# Altium footprint library Devel_Airscout_PCB_LibV3.0.PcbLib: 67 footprints (part 4 of 5)
Each footprint in its own frame and in the unit in brackets; x right, y up, seen from the top. Pads: shape width x height; smd on the part's side, far side on the other; paste and mask are expansions set on the pad; w line width, h text height; cw(c..) or ccw(c..) is an arc to the next point about the centre after c.
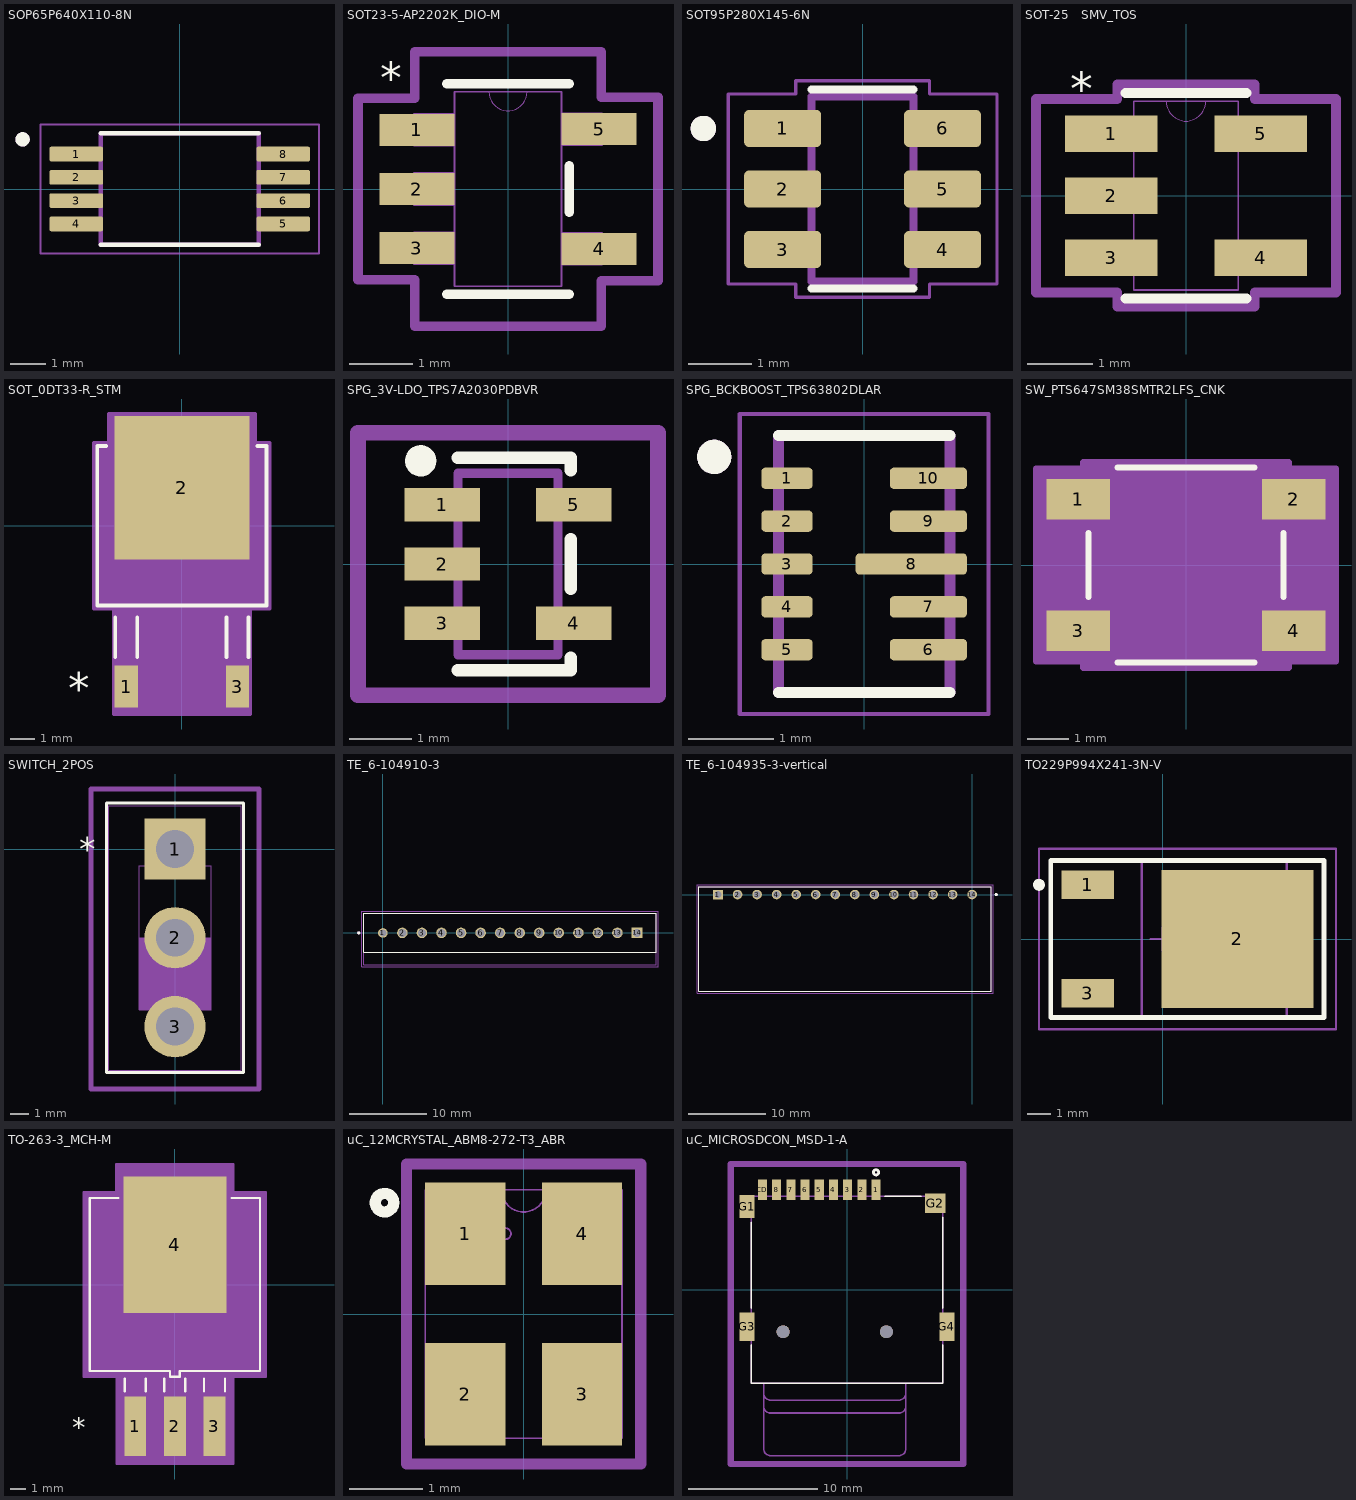
[diagram p3: the footprints below, top view; thin cyan lines are the x and y axes]

## SOP65P640X110-8N [mm]
pads (8):
  rrect25% 1.5x0.41 smd mask+0.065: 1(-2.885,0.975) 2(-2.885,0.325) 3(-2.885,-0.325) 4(-2.885,-0.975) 5(2.885,-0.975) 6(2.885,-0.325) 7(2.885,0.325) 8(2.885,0.975)
Top Overlay:
  circle w0.2: c-4.385,1.385 r0.1
  lines w0.127: -2.2,-1.55 2.2,-1.55 ; -2.2,1.55 2.2,1.55
Mechanical 13:
  circle w0.2: c-4.385,1.385 r0.1
  lines w0.127: -2.2,-1.55 -2.2,1.55 2.2,1.55 2.2,-1.55 -2.2,-1.55
Mechanical 15:
  lines w0.05: -3.885,-1.8 -3.885,1.8 3.885,1.8 3.885,-1.8 -3.885,-1.8
3D body "TSSOP8.STEP": height 1, standoff 0, extent -3.2,-1.5 3.2,1.5

## SOT23-5-AP2202K_DIO-M [mil]
pads (5):
  rect 47.15x20 smd paste+0 mask+0: 1(-57.08,37) 2(-57.08,0) 3(-57.08,-37) 4(57.08,-37.5) 5(57.08,37.5)
Top Overlay:
  lines w6: -38.5,-66 38.5,-66 ; -38.5,66 38.5,66 ; 38.5,-14.4 38.5,14.4
  text "*" at -80,60 h20
Mechanical 13:
  lines w0: -12,61 ccw(c0,61) 12,61
  lines w1: -59,-47 -33.5,-47 -33.5,-27 -59,-27 -59,-47 ; -59,-10 -33.5,-10 -33.5,10 -59,10 -59,-10 ; -59,27 -33.5,27 -33.5,47 -59,47 -59,27 ; -33.5,-61 -33.5,61 33.5,61 33.5,-61 -33.5,-61 ; 33.5,-47.5 59,-47.5 59,-27.5 33.5,-27.5 33.5,-47.5 ; 33.5,27.5 59,27.5 59,47.5 33.5,47.5 33.5,27.5
  text "*" at -80,60 h20
Mechanical 15:
  lines w6: -94,-57 -94,57 -58.5,57 -58.5,86 58.5,86 58.5,57.5 94,57.5 94,-57.5 58.5,-57.5 58.5,-86 -58.5,-86 -58.5,-57 -94,-57
3D body "SOT23-5-AP2202K_DIO.step": height 57.09, standoff 0, extent -59.02,-60.98 59.02,60.98

## SOT95P280X145-6N [mm]
pads (6):
  rrect25% 1.21x0.58 smd: 1(-1.255,0.95) 2(-1.255,0) 3(-1.255,-0.95) 4(1.255,-0.95) 5(1.255,0) 6(1.255,0.95)
Top Overlay:
  circle w0.2: c-2.5,0.95 r0.1
  lines w0.127: -0.8,-1.56 0.8,-1.56 ; -0.8,1.56 0.8,1.56
Mechanical 13:
  circle w0.2: c-2.5,0.95 r0.1
  lines w0.127: -0.8,-1.45 -0.8,1.45 0.8,1.45 0.8,-1.45 -0.8,-1.45
Mechanical 15:
  lines w0.05: -2.11,-1.49 -2.11,1.49 -1.05,1.49 -1.05,1.7 1.05,1.7 1.05,1.49 2.11,1.49 2.11,-1.49 1.05,-1.49 1.05,-1.7 -1.05,-1.7 -1.05,-1.49 -2.11,-1.49
3D body "step_temp.STEP": height 1.45, standoff 0, extent -1.4,-1.45 1.4,1.45

## SOT-25   SMV_TOS [mil]
pads (5):
  rect 56x22 smd paste+0 mask+0: 1(-45.06,37.4) 2(-45.06,0) 3(-45.06,-37.4) 4(45.06,-37.4) 5(45.06,37.4)
Top Overlay:
  lines w6: -36.5,-62 36.5,-62 ; -36.5,62 36.5,62
  text "*" at -70,55 h20
Mechanical 13:
  lines w0: -12,57 ccw(c0,57) 12,57
  lines w1: 31.5,-10 31.5,10 ; -59.06,-47.4 -31.5,-47.4 -31.5,-27.4 -59.06,-27.4 -59.06,-47.4 ; -59.06,-10 -31.5,-10 -31.5,10 -59.06,10 -59.06,-10 ; -59.06,27.4 -31.5,27.4 -31.5,47.4 -59.06,47.4 -59.06,27.4 ; -31.5,-57 -31.5,57 31.5,57 31.5,-57 -31.5,-57 ; 31.5,-47.4 59.06,-47.4 59.06,-27.4 31.5,-27.4 31.5,-47.4 ; 31.5,27.4 59.06,27.4 59.06,47.4 31.5,47.4 31.5,27.4
  text "*" at -70,55 h20
Mechanical 15:
  lines w6: -90.55,-58.4 -41.5,-58.4 -41.5,-67 41.5,-67 41.5,-58.4 90.55,-58.4 90.55,58.4 41.5,58.4 41.5,67 -41.5,67 -41.5,58.4 -90.55,58.4 -90.55,-58.4
3D body "SMV_z90.stp": height 45.28, standoff 0, extent -55.12,-57.09 55.12,57.09

## SOT_0DT33-R_STM [mil]
pads (3):
  rect 37x67 smd paste+0 mask+0: 1(-88.58,-256.5) 3(88.58,-256.5)
  rect 215x229 smd paste+0 mask+0: 2(0,60.5)
Top Overlay:
  lines w6: -120.6,127 -135,127 -135,-127 135,-127 135,127 120.6,127 ; -106.08,-209 -106.08,-146 ; -71.08,-209 -71.08,-146 ; 71.08,-209 71.08,-146 ; 106.08,-209 106.08,-146
  text "*" at -181.1,-283.46 h50
Mechanical 13:
  lines w1: -130,-122 130,-122 130,122 -130,122 -130,-122 ; -106.08,-276 -106.08,-122 -71.08,-122 -71.08,-276 -106.08,-276 ; 71.08,-276 71.08,-122 106.08,-122 106.08,-276 71.08,-276
  text "*" at -181.1,-283.46 h50
Mechanical 15:
  region: -140,-132 -140,132 -116.5,132 -116.5,178 116.5,178 116.5,132 140,132 140,-132 108.58,-132 108.58,-300 -108.58,-300 -108.58,-132
  lines w6: -140,-132 -140,132 -116.5,132 -116.5,178 116.5,178 116.5,132 140,132 140,-132 108.58,-132 108.58,-300 -108.58,-300 -108.58,-132 -140,-132
3D body "SOT_0DT33-R_STM.step": height 94.09, standoff -2.01, extent -130,-275.98 130,154.02

## SPG_3V-LDO_TPS7A2030PDBVR [mm] "Fooprint for SOT23-5; TPS7A2030PDBVR"
pads (5):
  rect 1.205x0.532 smd paste+0 mask+0: 1(-1.05,0.95) 2(-1.05,0) 3(-1.05,-0.95) 4(1.05,-0.95) 5(1.05,0.95)
Top Overlay:
  circle w0.25: c-1.397,1.651 r0.125
  lines w0.2: -0.8,-1.7 1,-1.7 1,-1.5 ; -0.8,1.7 1,1.7 1,1.5 ; 1,-0.4 1,0.4
Mechanical 13:
  lines w0.15: -0.8,-1.45 -0.8,1.45 0.8,1.45 0.8,-1.45 -0.8,-1.45
Mechanical 15:
  lines w0.254: -2.4,-2.1 -2.4,2.1 2.4,2.1 2.4,-2.1 -2.4,-2.1
  text "TPS7A2030PDBVR" at -2.1,2.4 h0.3
3D body "TPS560200DBVR.STEP": height 1.45, standoff 0, extent -1.4,-1.45 1.4,1.45

## SPG_BCKBOOST_TPS63802DLAR [mm] "Footprint of TPS63802DLAR"
height 1
pads (10):
  rrect40% 0.6x0.25 smd mask+0: 1(-0.9,1) 2(-0.9,0.5) 3(-0.9,0) 4(-0.9,-0.5) 5(-0.9,-1)
  rrect40% 0.9x0.25 smd mask+0: 6(0.75,-1) 7(0.75,-0.5) 9(0.75,0.5) 10(0.75,1)
  rrect40% 1.3x0.25 smd paste-2 mask+0: 8(0.55,0)
Top Overlay:
  circle w0.2: c-1.75,1.25 r0.1
  lines w0.127: -1,-1.5 1,-1.5 ; -1,1.5 1,1.5
Top Paste:
  drawing of 2 lines, arcs and shapes, not listed
Top Solder:
  drawing of 10 lines, arcs and shapes, not listed
Mechanical 13:
  circle w0.2: c-1.75,1.25 r0.1
  lines w0.127: -1,-1.5 1,-1.5 1,1.5 -1,1.5 -1,-1.5
Mechanical 15:
  lines w0.05: -1.45,-1.75 1.45,-1.75 1.45,1.75 -1.45,1.75 -1.45,-1.75
3D body "step_temp.STEP": height 1, standoff 0, extent -1,-1.5 1,1.5

## SW_PTS647SM38SMTR2LFS_CNK [mm]
pads (4):
  rect 1.549x0.991 smd paste+0 mask+0: 1(-2.625,1.6) 2(2.625,1.6) 3(-2.625,-1.6) 4(2.625,-1.6)
Top Overlay:
  lines w0.152: -2.375,-0.772 -2.375,0.772 ; -1.67,-2.375 1.67,-2.375 ; -1.67,2.375 1.67,2.375 ; 2.375,-0.772 2.375,0.772
Mechanical 13:
  lines w0: -0.305,2.248 ccw(c0,2.248) 0.305,2.248
  lines w0.025: -2.248,-2.248 2.248,-2.248 2.248,2.248 -2.248,2.248 -2.248,-2.248
Mechanical 15:
  region: -2.502,-2.349 -3.654,-2.349 -3.654,2.349 -2.502,2.349 -2.502,2.502 2.502,2.502 2.502,2.349 3.654,2.349 3.654,-2.349 2.502,-2.349 2.502,-2.502 -2.502,-2.502
  lines w0.152: -3.654,-2.349 -3.654,2.349 -2.502,2.349 -2.502,2.502 2.502,2.502 2.502,2.349 3.654,2.349 3.654,-2.349 2.502,-2.349 2.502,-2.502 -2.502,-2.502 -2.502,-2.349 -3.654,-2.349
3D body "SW_PTS647SM38SMTR2LFS_CNK.step": height 3.81, standoff 0, extent -3.05,-2.248 3.05,2.248

## SWITCH_2POS [mm] "ON-ON"
pads (3):
  rect 3.25x3.25 / inner round 1.524 / far side rect 2.108x2.108 hole 2 paste-2539.97 mask+0: 1(0,0)
  round 3.25 / inner round 1.524 / far side round 2.108 hole 2 paste-2539.97 mask+0: 2(0,-4.699) 3(0,-9.398)
Top Overlay:
  lines w0.152: -3.632,-11.824 -3.632,2.426 3.632,2.426 3.632,-11.824 -3.632,-11.824
  text "*" at -5.08,-0.635 h1.27
Mechanical 13:
  region: 1.905,-8.509 -1.905,-8.509 -1.905,-4.699 1.905,-4.699
  lines w0.025: -3.505,-11.697 -3.505,2.299 3.505,2.299 3.505,-11.697 -3.505,-11.697 ; -1.905,-8.509 1.905,-8.509 1.905,-0.889 -1.905,-0.889 -1.905,-8.509
  text "*" at -5.08,-0.635 h1.27
Mechanical 15:
  lines w0.254: -4.445,-12.7 -4.445,3.175 4.445,3.175 4.445,-12.7 -4.445,-12.7
3D body "CS12ANW03.stp": height 11.51, standoff -6.4, extent -3.632,-11.697 3.683,2.299

## TE_6-104910-3 [mm]
pads (14):
  round 1.24 hole 0.89: 1(0,0)
  round 1.37 hole 1.02: 2(2.54,0) 3(5.08,0) 4(7.62,0) 5(10.16,0) 6(12.7,0) 7(15.24,0) 8(17.78,0) 9(20.32,0) 10(22.86,0) 11(25.4,0) 12(27.94,0) 13(30.48,0)
  rect 1.37x1.37 hole 1.02: 14(33.02,0)
Top Overlay:
  circle w0.2: c-3.125,0 r0.1
  lines w0.127: -2.475,-2.54 -2.475,2.54 35.495,2.54 35.495,-2.54 -2.475,-2.54
Mechanical 13:
  circle w0.2: c-3.125,0 r0.1
  lines w0.127: -2.475,-2.54 -2.475,2.54 35.495,2.54 35.495,-2.54 ; -2.475,-2.54 35.495,-2.54 ; -2.475,-2.54 -2.475,-4.12 35.495,-4.12 35.495,-2.54
Mechanical 15:
  lines w0.05: -2.725,-4.37 -2.725,2.79 35.745,2.79 35.745,-4.37 -2.725,-4.37
3D body "705430013.stp": height 11.43, standoff -3.68, extent -2.54,-4.064 35.56,2.54

## TE_6-104935-3-vertical [mm]
pads (14):
  rect 1.24x1.24 hole 0.89: 1(-33.02,0)
  round 1.24 hole 0.89: 2(-30.48,0) 3(-27.94,0) 4(-25.4,0) 5(-22.86,0) 6(-20.32,0) 7(-17.78,0) 8(-15.24,0) 9(-12.7,0) 10(-10.16,0) 11(-7.62,0) 12(-5.08,0) 13(-2.54,0) 14(0,0)
Top Overlay:
  circle w0.2: c3.125,0 r0.1
  lines w0.127: -35.495,-12.57 2.475,-12.57 2.475,1.02 -35.495,1.02 -35.495,-12.57
Mechanical 13:
  circle w0.2: c3.125,0 r0.1
  lines w0.127: -35.495,-12.57 2.475,-12.57 ; -35.495,-12.57 2.475,-12.57 ; -35.495,-12.57 -35.495,1.02 2.475,1.02 2.475,-12.57
Mechanical 15:
  lines w0.05: -35.745,-12.82 2.725,-12.82 2.725,1.27 -35.745,1.27 -35.745,-12.82
3D body "705530013--3DModel-STEP-510211.STEP": height 6.98, standoff -3.3, extent -35.56,-12.763 2.54,0.826

## TO229P994X241-3N-V [mm] "TO,2.29mm pitch;2 pin,9.94mm L X 6.095mm W X 2.41mm H body"
height 2.41
pads (3):
  rect 2.2x1.2 smd paste+0 mask+0: 1(-3.15,2.28) 3(-3.15,-2.28)
  rect 6.4x5.8 smd paste+0 mask+0: 2(3.15,0)
Top Overlay:
  circle w0.25: c-5.2,2.28 r0.125
  lines w0.2: -4.7,-3.3 -4.7,3.3 6.8,3.3 6.8,-3.3 -4.7,-3.3
Mechanical 3:
  text ".DESIGNATOR" at 0,0 h1.2
Mechanical 13:
  lines w0.1: -0.875,-3.282 -0.875,3.282 5.22,3.282 5.22,-3.282 -0.875,-3.282
Mechanical 15:
  lines w0.1: -0.5,0 0.5,0 ; 0,-0.5 0,0.5 ; -5.2,-3.8 7.3,-3.8 7.3,3.8 -5.2,3.8 -5.2,-3.8
3D body "PG-TO252-3-311.stp": height 2.36, standoff 0, extent -3.94,-3.25 6.04,3.25

## TO-263-3_MCH-M [mil]
pads (4):
  rect 55x150 smd paste+0 mask+0: 1(-100,-358.5) 2(0,-358.5) 3(100,-358.5)
  rect 260x345 smd paste+0 mask+0: 4(0,101)
Top Overlay:
  lines w6: -143.1,218.5 -215,218.5 -215,-218.5 -12.5,-218.5 -12.5,-233.5 12.5,-233.5 12.5,-218.5 215,-218.5 215,218.5 143.1,218.5 ; -126.5,-269.5 -126.5,-237.5 ; -73.5,-269.5 -73.5,-237.5 ; -26.5,-269.5 -26.5,-237.5 ; 26.5,-269.5 26.5,-237.5 ; 73.5,-269.5 73.5,-237.5 ; 126.5,-269.5 126.5,-237.5
  text "*" at -259.84,-385.83 h50
Mechanical 13:
  lines w1: -210,-213.5 210,-213.5 210,213.5 -210,213.5 -210,-213.5 ; -126.5,-411.5 -126.5,-213.5 -73.5,-213.5 -73.5,-411.5 -126.5,-411.5 ; -26.5,-411.5 -26.5,-213.5 26.5,-213.5 26.5,-411.5 -26.5,-411.5 ; -7.5,-228.5 -7.5,-213.5 7.5,-213.5 7.5,-228.5 -7.5,-228.5 ; 73.5,-411.5 73.5,-213.5 126.5,-213.5 126.5,-411.5 73.5,-411.5
  text "*" at -259.84,-385.83 h50
Mechanical 15:
  region: -230,-233.5 -230,233.5 -148,233.5 -148,304.5 148,304.5 148,233.5 230,233.5 230,-233.5 147.5,-233.5 147.5,-453.5 -147.5,-453.5 -147.5,-233.5
  lines w6: -230,-233.5 -230,233.5 -148,233.5 -148,304.5 148,304.5 148,233.5 230,233.5 230,-233.5 147.5,-233.5 147.5,-453.5 -147.5,-453.5 -147.5,-233.5 -230,-233.5
3D body "TO-263-3_MCH.step": height 181.1, standoff -2.01, extent -210,-411.5 210,253.5

## TP4056 USB_C Charging Module [mm]

## uC_12MCRYSTAL_ABM8-272-T3_ABR [mm]
pads (4):
  rect 1.1x1.4 smd paste+0 mask+0: 1(-0.8,1.1) 2(-0.8,-1.1) 3(0.8,-1.1) 4(0.8,1.1)
Top Overlay:
  circle w0.152: c-1.905,1.524 r0.127
Mechanical 13:
  circle w0.025: c-0.25,1.1 r0.076
  lines w0.025: -0.305,1.702 ccw(c0,1.702) 0.305,1.702 ; -1.346,-1.702 1.346,-1.702 1.346,1.702 -1.346,1.702 -1.346,-1.702
Mechanical 15:
  lines w0.152: -1.604,-2.054 -1.6,-2.054 1.6,-2.054 1.604,-2.054 1.604,2.054 1.6,2.054 -1.6,2.054 -1.604,2.054 -1.604,-2.054
  text "ABM8-272-T3_ABR" at -1.676,2.222 h0.23
3D body "ABM8-272-T3_ABR.step": height 0.76, standoff 0, extent -1.346,-1.702 1.346,1.702

## uC_MICROSDCON_MSD-1-A [mm] "MSD-1-A footprint"
height 2
pads (15):
  rect 0.7x1.6 smd: 1(2.25,7.75) 2(1.15,7.75) 3(0.05,7.75) 4(-1.05,7.75) 5(-2.15,7.75) 6(-3.25,7.75) 7(-4.35,7.75) 8(-5.45,7.75) CD(-6.55,7.75)
  rect 1.2x1.8 smd: G1(-7.75,6.45)
  rect 1.6x1.5 smd: G2(6.85,6.7)
  rect 1.2x2.2 smd: G3(-7.75,-2.85) G4(7.75,-2.85)
  round 1 hole 1 unplated: ""(-4.95,-3.25) ""(3.05,-3.25)
Top Overlay:
  circle w0.2: c2.25,9.1 r0.2
  lines w0.127: -7.425,-4.27 -7.425,-7.25 7.425,-7.25 7.425,-4.27 ; -7.425,-1.43 -7.425,5.23 ; 2.92,7.25 5.73,7.25 ; 7.425,-1.43 7.425,5.63
Mechanical 13:
  circle w0.2: c2.25,9.1 r0.2
  lines w0.127: -6.45,-9.05 ccw(c-5.95,-9.05) -5.95,-9.55 4.05,-9.55 ccw(c4.05,-9.05) 4.55,-9.05 ; -6.45,-8.05 ccw(c-5.95,-8.05) -5.95,-8.55 4.05,-8.55 ccw(c4.05,-8.05) 4.55,-8.05 ; -6.45,-7.25 -7.425,-7.25 -7.425,7.25 7.425,7.25 7.425,-7.25 4.55,-7.25 ; -6.45,-7.25 4.55,-7.25 ; -6.45,-7.25 -6.45,-12.35 ccw(c-5.95,-12.35) -5.95,-12.85 4.05,-12.85 ccw(c4.05,-12.35) 4.55,-12.35 4.55,-7.25
Mechanical 15:
  lines w0.5: -9,-13.5 9,-13.5 9,9.75 -9,9.75 -9,-13.5
  text "MSD-1-A" at -3.249,10.504 h1
3D body "step_temp.STEP": height 1.8, standoff -0.6, extent -8.075,-7.239 8.075,7.811